# EAGLE library part DRV8312 (library motor-drivers)
TI DR83xx : Three Phase PWM Motor Driver
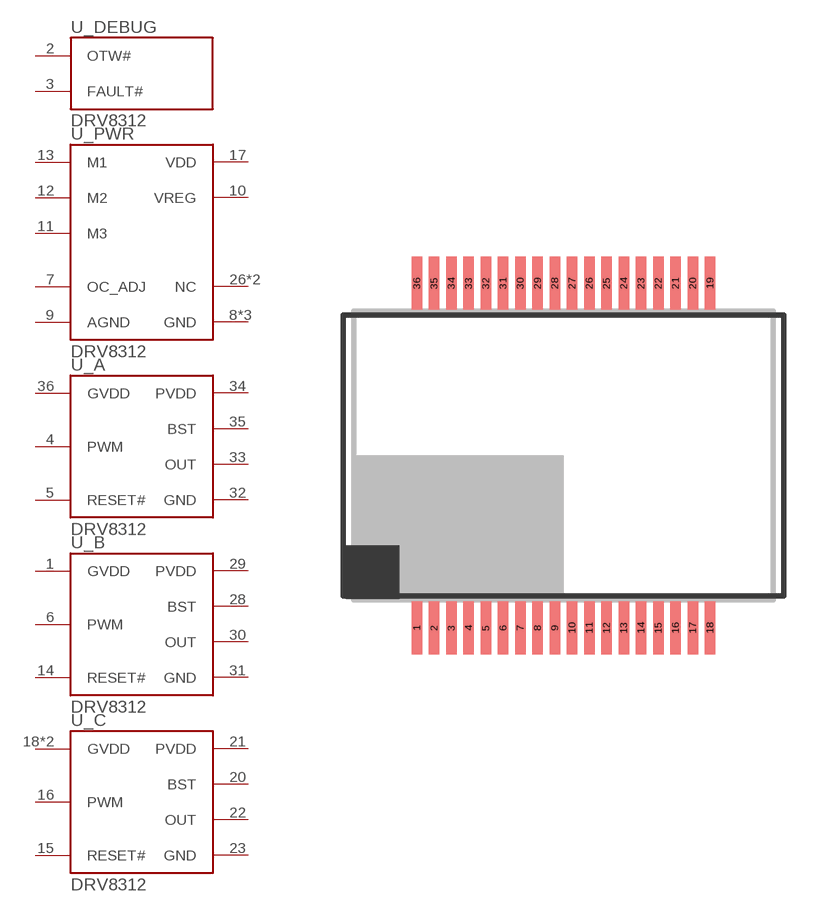
[diagram p6: symbol with the pads of DKD_R-PDSO-G36; footprint DKD_R-PDSO-G36]

Designator prefix U; gates _DEBUG=DRV8312_DEBUG _PWR=DRV8312_PWR _A=DRV8312_GATE _B=DRV8312_GATE _C=DRV8312_GATE

## DRV8312-32 (MF: Texas Instruments; MPN: DRV8332DKD; REVIEWED: NO; TESTED: NO; VALUE: DRV8332), DRV8312DKD-32  [DKD_R-PDSO-G36]
1  _B:GVDD
2  _DEBUG:OTW#
3  _DEBUG:FAULT#
4  _A:PWM
5  _A:RESET#
6  _B:PWM
7  _PWR:OC_ADJ
8  _PWR:GND
9  _PWR:AGND
10  _PWR:VREG
11  _PWR:M3
12  _PWR:M2
13  _PWR:M1
14  _B:RESET#
15  _C:RESET#
16  _C:PWM
17  _PWR:VDD
18  _C:GVDD
19  _C:GVDD
20  _C:BST
21  _C:PVDD
22  _C:OUT
23  _C:GND
24  _PWR:GND
25  _PWR:GND
26  _PWR:NC
27  _PWR:NC
28  _B:BST
29  _B:PVDD
30  _B:OUT
31  _B:GND
32  _A:GND
33  _A:OUT
34  _A:PVDD
35  _A:BST
36  _A:GVDD

## Footprint DKD_R-PDSO-G36 (pad centres in mm)
Thermally-enhanced 36-pin PSOP3 PowerPAD(TM) package Source: http://focus.ti.com/lit/ds/symlink/tas5261.pdf
smd 0.4 x 2: 1 -5.525,-6.5; 2 -4.875,-6.5; 3 -4.225,-6.5; 4 -3.575,-6.5; 5 -2.925,-6.5; 6 -2.275,-6.5; 7 -1.625,-6.5; 8 -0.975,-6.5; 9 -0.325,-6.5; 10 0.325,-6.5; 11 0.975,-6.5; 12 1.625,-6.5; 13 2.275,-6.5; 14 2.925,-6.5; 15 3.575,-6.5; 16 4.225,-6.5; 17 4.875,-6.5; 18 5.525,-6.5; 19 5.525,6.5; 20 4.875,6.5; 21 4.225,6.5; 22 3.575,6.5; 23 2.925,6.5; 24 2.275,6.5; 25 1.625,6.5; 26 0.975,6.5; 27 0.325,6.5; 28 -0.325,6.5; 29 -0.975,6.5; 30 -1.625,6.5; 31 -2.275,6.5; 32 -2.925,6.5; 33 -3.575,6.5; 34 -4.225,6.5; 35 -4.875,6.5; 36 -5.525,6.5